# Altium footprint library L9.PcbLib: 7 footprints
Each footprint in its own frame and in the unit in brackets; x right, y up, seen from the top. Pads: shape width x height; smd on the part's side, far side on the other; paste and mask are expansions set on the pad; w line width, h text height; cw(c..) or ccw(c..) is an arc to the next point about the centre after c.
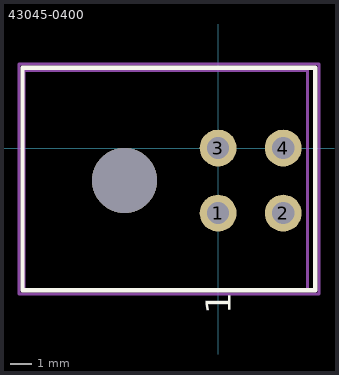
[diagram p0: the footprints below, top view; thin cyan lines are the x and y axes]

## 43025-0200-Footprint-1 [mm]
3D body "430250200.stp": height 4.13, standoff -6.7, extent -2.137,-6.032 3.143,7.968

## 43025-0408 [mm] "Molex Micro-Fit 3.0 2x2"
3D body "430250408.stp": height 10.7, standoff -0.13, extent -5.969,-5.25 8.031,3.02

## 43025-2000 [mm] "Molex Micro-Fit 3.0 2x10"
3D body "430252000.stp": height 10.7, standoff -0.13, extent -5.969,-16.54 8.031,14.31

## 43025-2400 [mm] "Molex Micro-Fit 3.0 2x12"
3D body "430252400.stp": height 10.7, standoff -0.13, extent -5.969,-19.54 8.031,17.31

## 43030-0003 [mm] "Molex Micro-Fit 3.0 Crimp Terminal"
3D body "430300003.stp": height -5.41, standoff -7.92, extent -1.192,-5.246 1.143,5.754

## 43045-0400 [mm] "Molex Micro-Fit 3.0 2x2"
pads (4):
  round 1.7 hole 1.02: 1(0,-3) 2(3,-3) 3(0,0) 4(3,0)
via -4.32,-1.5 diameter 3 hole 3
Top Overlay:
  lines w0.2: -9.017,-6.556 -9.017,3.7 4.475,3.7 4.475,-6.556 -9.017,-6.556
  text "1" at 0.975,-7.65 h2
Mechanical 2:
  lines w0.127: -8.938,-6.556 -8.938,3.575 4.125,3.575 4.125,-6.556 -8.938,-6.556
Mechanical 4:
  lines w0.127: -9.175,-6.725 4.65,-6.725 4.65,3.875 -9.175,3.875 -9.175,-6.725
3D body "430450400.stp": height 8.83, standoff -3.12, extent -8.92,-6.575 3.32,3.575

## 43045-0600 [mm] "Molex Micro-Fit 3.0 2x3"
3D body "430250600.stp": height 10.7, standoff -0.13, extent -5.969,-6.04 8.031,3.81